# Altium integrated library TI Power Management Battery Management.IntLib: 949 symbols (part 29 of 62)
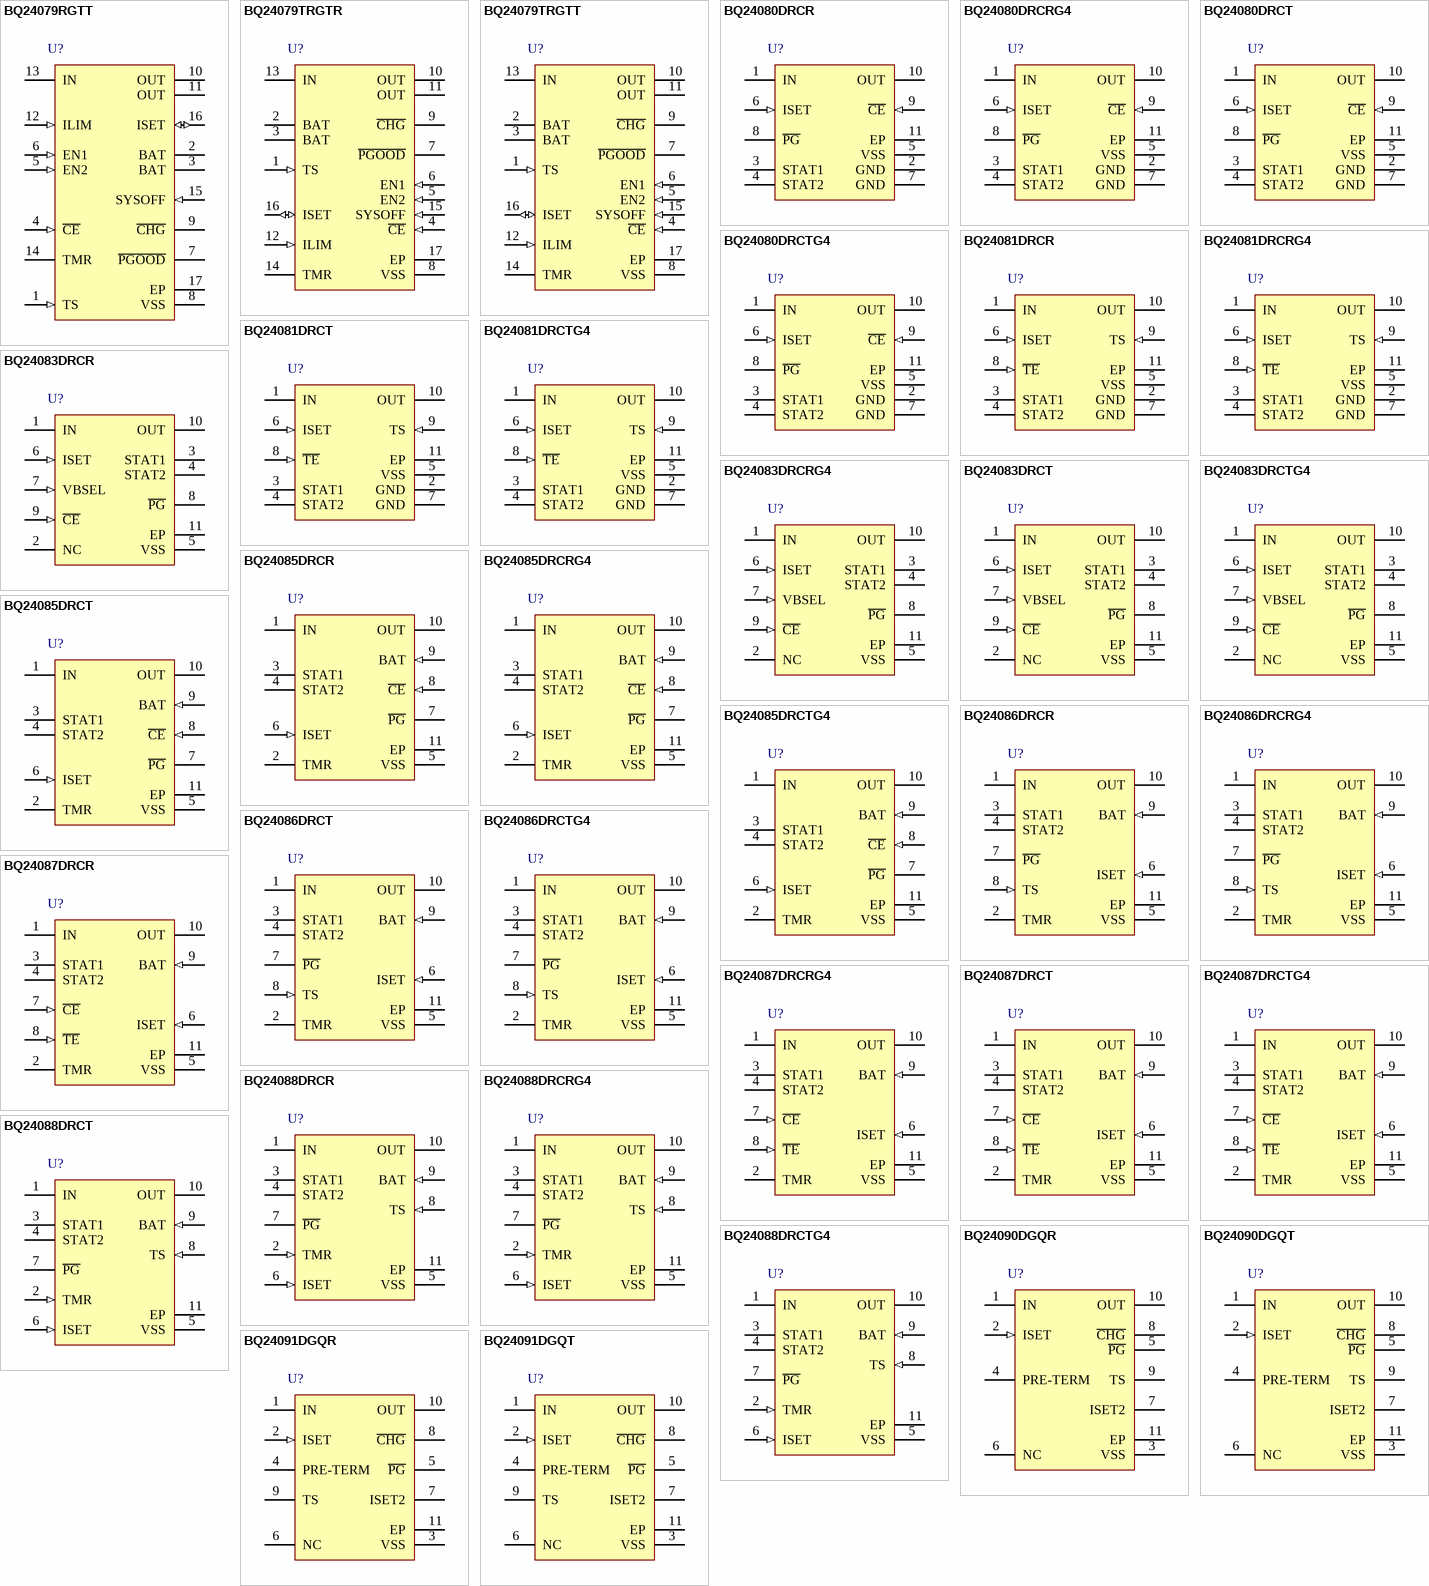
[diagram p62: symbols BQ24079RGTT to BQ24091DGQT]

## BQ24087DRCTG4
designator U?
750 mA Single-Chip Li-Ion / Li-Pol Charge Management IC with Thermal Regulation, 4.3 V, 0 to 125 degC, 10-pin SON (DRC), Green (RoHS & no Sb/Br); PartNumber: BQ24087DRCTG4; Manufacturer: Texas Instruments; Lead Acid: N; Li-Ion: Y; SubFamily: Battery Charge Management; Vin(Min)(V): 4.3; DatasheetVersion: SLUS784D; PackageVersion: revL, Sep-2011; PackageReference: DRC10-2400X1650TP; PackageDescription: 10-Pin Plastic Small Outline No-Lead, 3 x 3 x 1 mm Body, 0.5 mm Pitch, Exposed Pad; Supplier 1: Digi-Key; Supplier Part Number 1: BQ24087DRCTG4-ND; Supplier 2: Mouser; Supplier Part Number 2: 595-BQ24087DRCTG4; Eco-Plan: Green (RoHS & no Sb/Br); Li-Polymer: Y; NiCd: N; NiMH: N; Over Voltage Protection: N; Mounting Technology: Surface Mount; ComponentLink1Description: Datasheet; ComponentLink1URL: http://www.ti.com/general/docs/lit/getliterature.tsp?genericPartNumber=BQ24087&fileType=pdf
footprint DRC10-2400X1650TP (SON, 10-Leads, Body 3x3mm, Pitch 0.5mm, Thermal Pad 2.4x1.65mm, TI Recommended)
pins: 1 IN (power) "Charge Input Voltage and internal supply. Connect a 1- uF (minimum) capacitor from IN to VSS. CIN >= COUT", 2 TMR "Safety Timer Program Input, timer disabled if floating. Connect a resistor to VSS pin to program safety timer timeout value", 3 STAT1 (hiz) "Charge Status Output 1", 4 STAT2 (hiz) "Charge Status Output 2", 5 VSS (power) "Ground", 6 ISET (in) "Charge current set point, resistor connected from ISET to VSS sets charge current value. Connect a 0.1-uF capacitor from BAT to ISET for I(OUT) < 200 mA.", 7 ~{CE} (in) "Charge enable Input. C\E\ = LO enables charger. C\E\ = HI disables charger.", 8 ~{TE} (in) "Termination enable Input. T\E\ = LO enables termination detection and battery absent detection. T\E\ = HI disables termination detection and battery absent detection.", 9 BAT (in) "Battery Voltage Sense Input. Connect to the battery positive terminal. Connect a 390-ohm resistor from BAT to OUT for I(OUT) < 200 mA.", 10 OUT (power) "Charge current output. Connect to the battery positive terminal. Connect a 1- uF (minimum) capacitor from OUT to VSS.", 11 EP (power) "There is an internal electrical connection between the exposed thermal pad and Vss pin of the IC. The exposed thermal pad must be connected to the same potential as the VSS pin on the printed circuit board. Do not use the (See Datasheet)"

## BQ24088DRCR
designator U?
750 mA Single Chip Li-Ion / Li-Pol Charge Management IC with Thermal Regulation, 4.3 V, 0 to 125 degC, 10-pin SON (DRC), Green (RoHS & no Sb/Br); PartNumber: BQ24088DRCR; Manufacturer: Texas Instruments; Lead Acid: N; Li-Ion: Y; SubFamily: Battery Charge Management; Vin(Min)(V): 4.3; DatasheetVersion: SLUS784D; PackageVersion: revL, Sep-2011; PackageReference: DRC10-2400X1650TP; PackageDescription: 10-Pin Plastic Small Outline No-Lead, 3 x 3 x 1 mm Body, 0.5 mm Pitch, Exposed Pad; Supplier 1: Digi-Key; Supplier Part Number 1: 296-23443-2-ND; Supplier 2: Digi-Key; Supplier Part Number 2: 296-23443-1-ND; Supplier 3: Digi-Key; Supplier Part Number 3: 296-23443-6-ND; Supplier 4: Mouser; Supplier Part Number 4: 595-BQ24088DRCR; Eco-Plan: Green (RoHS & no Sb/Br); Li-Polymer: Y; NiCd: N; NiMH: N; Over Voltage Protection: N; Mounting Technology: Surface Mount; ComponentLink1Description: Datasheet; ComponentLink1URL: http://www.ti.com/general/docs/lit/getliterature.tsp?genericPartNumber=BQ24088&fileType=pdf
footprint DRC10-2400X1650TP (SON, 10-Leads, Body 3x3mm, Pitch 0.5mm, Thermal Pad 2.4x1.65mm, TI Recommended)
pins: 1 IN (power) "Charge Input Voltage and internal supply. Connect a 1- uF (minimum) capacitor from IN to VSS. CIN >= COUT", 2 TMR (in) "Safety Timer Program Input, timer disabled if floating. Connect a resistor to VSS pin to program safety timer timeout value", 3 STAT1 (hiz) "Charge Status Output 1 (open-collector, seeTable 3)", 4 STAT2 (hiz) "Charge Status Output 2 (open-collector, see Table 3)", 5 VSS (power) "Ground", 6 ISET (in) "Charge current set point, resistor connected from ISET to VSS sets charge  current value. Connect a 0.1-uF capacitor from BAT to ISET for I(OUT) < 200 mA.", 7 ~{PG} (hiz) "Power Good status output (open-collector), active low", 8 TS (in) "Temperature Sense Input, connect to battery pack thermistor. Connect an external resistive divider to program temperature thresholds.", 9 BAT (in) "Battery Voltage Sense Input. Connect to the battery positive terminal. Connect a 390-ohm resistor from BAT to OUT for I(OUT) < 200 mA..", 10 OUT (power) "Charge current output. Connect to the battery positive terminal. Connect a 1- uF (minimum) capacitor from OUT to VSS.", 11 EP (power) "There is an internal electrical connection between the exposed thermal pad and Vss pin of the IC. The exposed thermal pad must be connected to the same potential as the VSS pin on the printed circuit board. Do not use the (See Datasheet)"

## BQ24088DRCRG4
designator U?
750 mA Single Chip Li-Ion / Li-Pol Charge Management IC with Thermal Regulation, 4.3 V, 0 to 125 degC, 10-pin SON (DRC), Green (RoHS & no Sb/Br); PartNumber: BQ24088DRCRG4; Manufacturer: Texas Instruments; Lead Acid: N; Li-Ion: Y; SubFamily: Battery Charge Management; Vin(Min)(V): 4.3; DatasheetVersion: SLUS784D; PackageVersion: revL, Sep-2011; PackageReference: DRC10-2400X1650TP; PackageDescription: 10-Pin Plastic Small Outline No-Lead, 3 x 3 x 1 mm Body, 0.5 mm Pitch, Exposed Pad; Supplier 1: Digi-Key; Supplier Part Number 1: BQ24088DRCRG4-ND; Supplier 2: Mouser; Supplier Part Number 2: 595-BQ24088DRCRG4; Eco-Plan: Green (RoHS & no Sb/Br); Li-Polymer: Y; NiCd: N; NiMH: N; Over Voltage Protection: N; Mounting Technology: Surface Mount; ComponentLink1Description: Datasheet; ComponentLink1URL: http://www.ti.com/general/docs/lit/getliterature.tsp?genericPartNumber=BQ24088&fileType=pdf
footprint DRC10-2400X1650TP (SON, 10-Leads, Body 3x3mm, Pitch 0.5mm, Thermal Pad 2.4x1.65mm, TI Recommended)
pins: 1 IN (power) "Charge Input Voltage and internal supply. Connect a 1- uF (minimum) capacitor from IN to VSS. CIN >= COUT", 2 TMR (in) "Safety Timer Program Input, timer disabled if floating. Connect a resistor to VSS pin to program safety timer timeout value", 3 STAT1 (hiz) "Charge Status Output 1 (open-collector, seeTable 3)", 4 STAT2 (hiz) "Charge Status Output 2 (open-collector, see Table 3)", 5 VSS (power) "Ground", 6 ISET (in) "Charge current set point, resistor connected from ISET to VSS sets charge  current value. Connect a 0.1-uF capacitor from BAT to ISET for I(OUT) < 200 mA.", 7 ~{PG} (hiz) "Power Good status output (open-collector), active low", 8 TS (in) "Temperature Sense Input, connect to battery pack thermistor. Connect an external resistive divider to program temperature thresholds.", 9 BAT (in) "Battery Voltage Sense Input. Connect to the battery positive terminal. Connect a 390-ohm resistor from BAT to OUT for I(OUT) < 200 mA..", 10 OUT (power) "Charge current output. Connect to the battery positive terminal. Connect a 1- uF (minimum) capacitor from OUT to VSS.", 11 EP (power) "There is an internal electrical connection between the exposed thermal pad and Vss pin of the IC. The exposed thermal pad must be connected to the same potential as the VSS pin on the printed circuit board. Do not use the (See Datasheet)"

## BQ24088DRCT
designator U?
750 mA Single Chip Li-Ion / Li-Pol Charge Management IC with Thermal Regulation, 4.3 V, 0 to 125 degC, 10-pin SON (DRC), Green (RoHS & no Sb/Br); PartNumber: BQ24088DRCT; Manufacturer: Texas Instruments; Lead Acid: N; Li-Ion: Y; SubFamily: Battery Charge Management; Vin(Min)(V): 4.3; DatasheetVersion: SLUS784D; PackageVersion: revL, Sep-2011; PackageReference: DRC10-2400X1650TP; PackageDescription: 10-Pin Plastic Small Outline No-Lead, 3 x 3 x 1 mm Body, 0.5 mm Pitch, Exposed Pad; Supplier 1: Digi-Key; Supplier Part Number 1: BQ24088DRCT-ND; Supplier 2: Farnell; Supplier Part Number 2: 1647895RL; Supplier 3: Farnell; Supplier Part Number 3: 1647895; Supplier 4: Mouser; Supplier Part Number 4: 595-BQ24088DRCT; Eco-Plan: Green (RoHS & no Sb/Br); Li-Polymer: Y; NiCd: N; NiMH: N; Over Voltage Protection: N; Mounting Technology: Surface Mount; ComponentLink1Description: Datasheet; ComponentLink1URL: http://www.ti.com/general/docs/lit/getliterature.tsp?genericPartNumber=BQ24088&fileType=pdf
footprint DRC10-2400X1650TP (SON, 10-Leads, Body 3x3mm, Pitch 0.5mm, Thermal Pad 2.4x1.65mm, TI Recommended)
pins: 1 IN (power) "Charge Input Voltage and internal supply. Connect a 1- uF (minimum) capacitor from IN to VSS. CIN >= COUT", 2 TMR (in) "Safety Timer Program Input, timer disabled if floating. Connect a resistor to VSS pin to program safety timer timeout value", 3 STAT1 (hiz) "Charge Status Output 1 (open-collector, seeTable 3)", 4 STAT2 (hiz) "Charge Status Output 2 (open-collector, see Table 3)", 5 VSS (power) "Ground", 6 ISET (in) "Charge current set point, resistor connected from ISET to VSS sets charge  current value. Connect a 0.1-uF capacitor from BAT to ISET for I(OUT) < 200 mA.", 7 ~{PG} (hiz) "Power Good status output (open-collector), active low", 8 TS (in) "Temperature Sense Input, connect to battery pack thermistor. Connect an external resistive divider to program temperature thresholds.", 9 BAT (in) "Battery Voltage Sense Input. Connect to the battery positive terminal. Connect a 390-ohm resistor from BAT to OUT for I(OUT) < 200 mA..", 10 OUT (power) "Charge current output. Connect to the battery positive terminal. Connect a 1- uF (minimum) capacitor from OUT to VSS.", 11 EP (power) "There is an internal electrical connection between the exposed thermal pad and Vss pin of the IC. The exposed thermal pad must be connected to the same potential as the VSS pin on the printed circuit board. Do not use the (See Datasheet)"

## BQ24088DRCTG4
designator U?
750 mA Single Chip Li-Ion / Li-Pol Charge Management IC with Thermal Regulation, 4.3 V, 0 to 125 degC, 10-pin SON (DRC), Green (RoHS & no Sb/Br); PartNumber: BQ24088DRCTG4; Manufacturer: Texas Instruments; Lead Acid: N; Li-Ion: Y; SubFamily: Battery Charge Management; Vin(Min)(V): 4.3; DatasheetVersion: SLUS784D; PackageVersion: revL, Sep-2011; PackageReference: DRC10-2400X1650TP; PackageDescription: 10-Pin Plastic Small Outline No-Lead, 3 x 3 x 1 mm Body, 0.5 mm Pitch, Exposed Pad; Supplier 1: Digi-Key; Supplier Part Number 1: BQ24088DRCTG4-ND; Supplier 2: Mouser; Supplier Part Number 2: 595-BQ24088DRCTG4; Eco-Plan: Green (RoHS & no Sb/Br); Li-Polymer: Y; NiCd: N; NiMH: N; Over Voltage Protection: N; Mounting Technology: Surface Mount; ComponentLink1Description: Datasheet; ComponentLink1URL: http://www.ti.com/general/docs/lit/getliterature.tsp?genericPartNumber=BQ24088&fileType=pdf
footprint DRC10-2400X1650TP (SON, 10-Leads, Body 3x3mm, Pitch 0.5mm, Thermal Pad 2.4x1.65mm, TI Recommended)
pins: 1 IN (power) "Charge Input Voltage and internal supply. Connect a 1- uF (minimum) capacitor from IN to VSS. CIN >= COUT", 2 TMR (in) "Safety Timer Program Input, timer disabled if floating. Connect a resistor to VSS pin to program safety timer timeout value", 3 STAT1 (hiz) "Charge Status Output 1 (open-collector, seeTable 3)", 4 STAT2 (hiz) "Charge Status Output 2 (open-collector, see Table 3)", 5 VSS (power) "Ground", 6 ISET (in) "Charge current set point, resistor connected from ISET to VSS sets charge  current value. Connect a 0.1-uF capacitor from BAT to ISET for I(OUT) < 200 mA.", 7 ~{PG} (hiz) "Power Good status output (open-collector), active low", 8 TS (in) "Temperature Sense Input, connect to battery pack thermistor. Connect an external resistive divider to program temperature thresholds.", 9 BAT (in) "Battery Voltage Sense Input. Connect to the battery positive terminal. Connect a 390-ohm resistor from BAT to OUT for I(OUT) < 200 mA..", 10 OUT (power) "Charge current output. Connect to the battery positive terminal. Connect a 1- uF (minimum) capacitor from OUT to VSS.", 11 EP (power) "There is an internal electrical connection between the exposed thermal pad and Vss pin of the IC. The exposed thermal pad must be connected to the same potential as the VSS pin on the printed circuit board. Do not use the (See Datasheet)"

## BQ24090DGQR
designator U?
1 A, Single Input, Single Cell Li-Ion Battery Charger with 10 K ohm NTC, 4.5 V, -40 to 150 degC, 10-pin MSOP-PowerPAD (DGQ), Green (RoHS & no Sb/Br); PartNumber: BQ24090DGQR; Manufacturer: Texas Instruments; Lead Acid: N; SubFamily: Battery Charge Management; Vin(Min)(V): 4.5; DatasheetVersion: SLUS968C; PackageVersion: revF, Nov-2011; PackageReference: DGQ10-1675X1445TP; PackageDescription: 10-Pin PowerPAD Plastic Small Outline 0.5 mm Pitch, Exposed Pad; Supplier 1: Digi-Key; Supplier Part Number 1: BQ24090DGQR-ND; Supplier 2: Newark; Supplier Part Number 2: 68R5440; Supplier 3: Mouser; Supplier Part Number 3: 595-BQ24090DGQR; Eco-Plan: Green (RoHS & no Sb/Br); Li-Ion: N; Li-Polymer: N; NiCd: N; NiMH: N; Over Voltage Protection: N; Mounting Technology: Surface Mount; Code_JEDEC: MO-187-BA-T; ComponentLink1Description: Datasheet; ComponentLink1URL: http://www.ti.com/general/docs/lit/getliterature.tsp?genericPartNumber=BQ24090&fileType=pdf
footprint DGQ10-1675X1445TP_N (TSSOP, 10-Leads, Body 3x3mm, Pitch 0.5mm, Thermal Pad 1.88x1.57mm, IPC Medium Density)
footprint DGQ10-1675X1445TP_L (TSSOP, 10-Leads, Body 3x3mm, Pitch 0.5mm, Thermal Pad 1.88x1.57mm, IPC High Density)
footprint DGQ10-1675X1445TP_M (TSSOP, 10-Leads, Body 3x3mm, Pitch 0.5mm, Thermal Pad 1.88x1.57mm, IPC Low Density)
pins: 1 IN (power) "Input power, connected to external DC supply (AC adapter or USB port). Expected range of bypass capacitors 1uF to 10uF, connect from IN to VSS.", 2 ISET (in) "Programs the Fast-charge current setting. External resistor from ISET to VSS defines fast charge current value. Range is 10.8k (50mA) to 675 ohm (800mA).", 3 VSS (power) "Ground terminal", 4 PRE-TERM "Programs the Current Termination Threshold (5 to 50% of Iout which is set by ISET) and Sets the Pre- Charge Current to twice the Termination Current Level. Expected range of programming resistor is 1k to 10kohm (2k: Ipgm/10 (See Datasheet)", 5 ~{PG} (hiz) "Low (FET on) indicates the input voltage is above UVLO and the OUT (battery) voltage.", 6 NC "Do not make a connection to this pin (for internal use) - Do not route through this pin", 7 ISET2 "Programming the Input/Output Current Limit for the USB or Adaptor source: High = 500mAmax, Low = ISET, FLOAT = 100mA max.", 8 ~{CHG} (hiz) "Low (FET on) indicates charging and Open Drain (FET off) indicates no Charging or Charge complete.", 9 TS "Temperature sense pin connected to bq24090/2 -10k at 25degreesC NTC thermistor & bq24091/3 -100k at 25degreesC NTC thermistor, in the battery pack. Floating TS Pin or pulling High puts part in TTDM “Charger?Mode and disable (See Datasheet)", 10 OUT (power) "Battery Connection. System Load may be connected. Average load should not be excessive, allowing battery to charge within the 10 hour safety timer window. Expected range of bypass capacitors 1uF to 10uF.", 11 EP (power) "There is an internal electrical connection between the exposed thermal pad and the VSS pin of the device. The thermal pad must be connected to the same potential as the VSS pin on the printed circuit board. Do not use the (See Datasheet)"

## BQ24090DGQT
designator U?
1 A, Single Input, Single Cell Li-Ion Battery Charger with 10 K ohm NTC, 4.5 V, -40 to 150 degC, 10-pin MSOP-PowerPAD (DGQ), Green (RoHS & no Sb/Br); PartNumber: BQ24090DGQT; Manufacturer: Texas Instruments; Lead Acid: N; SubFamily: Battery Charge Management; Vin(Min)(V): 4.5; DatasheetVersion: SLUS968C; PackageVersion: revF, Nov-2011; PackageReference: DGQ10-1675X1445TP; PackageDescription: 10-Pin PowerPAD Plastic Small Outline 0.5 mm Pitch, Exposed Pad; Supplier 1: Digi-Key; Supplier Part Number 1: 296-25863-2-ND; Supplier 2: Digi-Key; Supplier Part Number 2: 296-25863-1-ND; Supplier 3: Digi-Key; Supplier Part Number 3: 296-25863-6-ND; Supplier 4: Farnell; Supplier Part Number 4: 1815715RL; Supplier 5: Farnell; Supplier Part Number 5: 1815715; Supplier 6: Newark; Supplier Part Number 6: 67R4097; Supplier 7: Mouser; Supplier Part Number 7: 595-BQ24090DGQT; Eco-Plan: Green (RoHS & no Sb/Br); Li-Ion: N; Li-Polymer: N; NiCd: N; NiMH: N; Over Voltage Protection: N; Mounting Technology: Surface Mount; Code_JEDEC: MO-187-BA-T; ComponentLink1Description: Datasheet; ComponentLink1URL: http://www.ti.com/general/docs/lit/getliterature.tsp?genericPartNumber=BQ24090&fileType=pdf
footprint DGQ10-1675X1445TP_N (TSSOP, 10-Leads, Body 3x3mm, Pitch 0.5mm, Thermal Pad 1.88x1.57mm, IPC Medium Density)
footprint DGQ10-1675X1445TP_L (TSSOP, 10-Leads, Body 3x3mm, Pitch 0.5mm, Thermal Pad 1.88x1.57mm, IPC High Density)
footprint DGQ10-1675X1445TP_M (TSSOP, 10-Leads, Body 3x3mm, Pitch 0.5mm, Thermal Pad 1.88x1.57mm, IPC Low Density)
pins: 1 IN (power) "Input power, connected to external DC supply (AC adapter or USB port). Expected range of bypass capacitors 1uF to 10uF, connect from IN to VSS.", 2 ISET (in) "Programs the Fast-charge current setting. External resistor from ISET to VSS defines fast charge current value. Range is 10.8k (50mA) to 675 ohm (800mA).", 3 VSS (power) "Ground terminal", 4 PRE-TERM "Programs the Current Termination Threshold (5 to 50% of Iout which is set by ISET) and Sets the Pre- Charge Current to twice the Termination Current Level. Expected range of programming resistor is 1k to 10kohm (2k: Ipgm/10 (See Datasheet)", 5 ~{PG} (hiz) "Low (FET on) indicates the input voltage is above UVLO and the OUT (battery) voltage.", 6 NC "Do not make a connection to this pin (for internal use) - Do not route through this pin", 7 ISET2 "Programming the Input/Output Current Limit for the USB or Adaptor source: High = 500mAmax, Low = ISET, FLOAT = 100mA max.", 8 ~{CHG} (hiz) "Low (FET on) indicates charging and Open Drain (FET off) indicates no Charging or Charge complete.", 9 TS "Temperature sense pin connected to bq24090/2 -10k at 25degreesC NTC thermistor & bq24091/3 -100k at 25degreesC NTC thermistor, in the battery pack. Floating TS Pin or pulling High puts part in TTDM “Charger?Mode and disable (See Datasheet)", 10 OUT (power) "Battery Connection. System Load may be connected. Average load should not be excessive, allowing battery to charge within the 10 hour safety timer window. Expected range of bypass capacitors 1uF to 10uF.", 11 EP (power) "There is an internal electrical connection between the exposed thermal pad and the VSS pin of the device. The thermal pad must be connected to the same potential as the VSS pin on the printed circuit board. Do not use the (See Datasheet)"

## BQ24091DGQR
designator U?
1 A, Single-Input, Single-Cell Li-Ion Battery Charger with 100 k ohm NTC, 4.5 V, -40 to 150 degC, 10-pin MSOP-PowerPAD (DGQ), Green (RoHS & no Sb/Br); PartNumber: BQ24091DGQR; Manufacturer: Texas Instruments; Lead Acid: N; SubFamily: Battery Charge Management; Vin(Min)(V): 4.5; DatasheetVersion: SLUS968C; PackageVersion: revF, Nov-2011; PackageReference: DGQ10-1675X1445TP; PackageDescription: 10-Pin PowerPAD Plastic Small Outline 0.5 mm Pitch, Exposed Pad; Supplier 1: Digi-Key; Supplier Part Number 1: BQ24091DGQR-ND; Supplier 2: Mouser; Supplier Part Number 2: 595-BQ24091DGQR; Eco-Plan: Green (RoHS & no Sb/Br); Li-Ion: N; Li-Polymer: N; NiCd: N; NiMH: N; Over Voltage Protection: N; Mounting Technology: Surface Mount; Code_JEDEC: MO-187-BA-T; ComponentLink1Description: Datasheet; ComponentLink1URL: http://www.ti.com/general/docs/lit/getliterature.tsp?genericPartNumber=BQ24091&fileType=pdf
footprint DGQ10-1675X1445TP_N (TSSOP, 10-Leads, Body 3x3mm, Pitch 0.5mm, Thermal Pad 1.88x1.57mm, IPC Medium Density)
footprint DGQ10-1675X1445TP_L (TSSOP, 10-Leads, Body 3x3mm, Pitch 0.5mm, Thermal Pad 1.88x1.57mm, IPC High Density)
footprint DGQ10-1675X1445TP_M (TSSOP, 10-Leads, Body 3x3mm, Pitch 0.5mm, Thermal Pad 1.88x1.57mm, IPC Low Density)
pins: 1 IN (power) "Input power, connected to external DC supply (AC adapter or USB port). Expected range of bypass capacitors 1uF to 10uF, connect from IN to VSS.", 2 ISET (in) "Programs the Fast-charge current setting. External resistor from ISET to VSS defines fast charge current value. Range is 10.8k (50mA) to 675 ohm (800mA).", 3 VSS (power) "Ground terminal", 4 PRE-TERM "Programs the Current Termination Threshold (5 to 50% of Iout which is set by ISET) and Sets the Pre- Charge Current to twice the Termination Current Level. Expected range of programming resistor is 1k to 10kohm (2k: Ipgm/10 (See Datasheet)", 5 ~{PG} (hiz) "Low (FET on) indicates the input voltage is above UVLO and the OUT (battery) voltage.", 6 NC "Do not make a connection to this pin (for internal use) - Do not route through this pin", 7 ISET2 "Programming the Input/Output Current Limit for the USB or Adaptor source: High = 500mAmax, Low = ISET, FLOAT = 100mA max.", 8 ~{CHG} (hiz) "Low (FET on) indicates charging and Open Drain (FET off) indicates no Charging or Charge complete.", 9 TS "Temperature sense pin connected to bq24090/2 -10k at 25degC NTC thermistor & bq24091/3 -100k at 25degC NTC thermistor, in the battery pack. Floating TS Pin or pulling High puts part in TTDM "Charger" Mode and disable TS (See Datasheet)", 10 OUT (power) "Battery Connection. System Load may be connected. Average load should not be excessive, allowing battery to charge within the 10 hour safety timer window. Expected range of bypass capacitors 1uF to 10uF.", 11 EP (power) "There is an internal electrical connection between the exposed thermal pad and the VSS pin of the device. The thermal pad must be connected to the same potential as the VSS pin on the printed circuit board. Do not use the (See Datasheet)"

## BQ24091DGQT
designator U?
1 A, Single-Input, Single-Cell Li-Ion Battery Charger with 100 k ohm NTC, 4.5 V, -40 to 150 degC, 10-pin MSOP-PowerPAD (DGQ), Green (RoHS & no Sb/Br); PartNumber: BQ24091DGQT; Manufacturer: Texas Instruments; Lead Acid: N; SubFamily: Battery Charge Management; Vin(Min)(V): 4.5; DatasheetVersion: SLUS968C; PackageVersion: revF, Nov-2011; PackageReference: DGQ10-1675X1445TP; PackageDescription: 10-Pin PowerPAD Plastic Small Outline 0.5 mm Pitch, Exposed Pad; Supplier 1: Digi-Key; Supplier Part Number 1: 296-25864-2-ND; Supplier 2: Digi-Key; Supplier Part Number 2: 296-25864-1-ND; Supplier 3: Digi-Key; Supplier Part Number 3: 296-25864-6-ND; Supplier 4: Farnell; Supplier Part Number 4: 1864811; Supplier 5: Farnell; Supplier Part Number 5: 1864811RL; Supplier 6: Newark; Supplier Part Number 6: 67R4098; Supplier 7: Mouser; Supplier Part Number 7: 595-BQ24091DGQT; Eco-Plan: Green (RoHS & no Sb/Br); Li-Ion: N; Li-Polymer: N; NiCd: N; NiMH: N; Over Voltage Protection: N; Mounting Technology: Surface Mount; Code_JEDEC: MO-187-BA-T; ComponentLink1Description: Datasheet; ComponentLink1URL: http://www.ti.com/general/docs/lit/getliterature.tsp?genericPartNumber=BQ24091&fileType=pdf
footprint DGQ10-1675X1445TP_N (TSSOP, 10-Leads, Body 3x3mm, Pitch 0.5mm, Thermal Pad 1.88x1.57mm, IPC Medium Density)
footprint DGQ10-1675X1445TP_L (TSSOP, 10-Leads, Body 3x3mm, Pitch 0.5mm, Thermal Pad 1.88x1.57mm, IPC High Density)
footprint DGQ10-1675X1445TP_M (TSSOP, 10-Leads, Body 3x3mm, Pitch 0.5mm, Thermal Pad 1.88x1.57mm, IPC Low Density)
pins: 1 IN (power) "Input power, connected to external DC supply (AC adapter or USB port). Expected range of bypass capacitors 1uF to 10uF, connect from IN to VSS.", 2 ISET (in) "Programs the Fast-charge current setting. External resistor from ISET to VSS defines fast charge current value. Range is 10.8k (50mA) to 675 ohm (800mA).", 3 VSS (power) "Ground terminal", 4 PRE-TERM "Programs the Current Termination Threshold (5 to 50% of Iout which is set by ISET) and Sets the Pre- Charge Current to twice the Termination Current Level. Expected range of programming resistor is 1k to 10kohm (2k: Ipgm/10 (See Datasheet)", 5 ~{PG} (hiz) "Low (FET on) indicates the input voltage is above UVLO and the OUT (battery) voltage.", 6 NC "Do not make a connection to this pin (for internal use) - Do not route through this pin", 7 ISET2 "Programming the Input/Output Current Limit for the USB or Adaptor source: High = 500mAmax, Low = ISET, FLOAT = 100mA max.", 8 ~{CHG} (hiz) "Low (FET on) indicates charging and Open Drain (FET off) indicates no Charging or Charge complete.", 9 TS "Temperature sense pin connected to bq24090/2 -10k at 25degC NTC thermistor & bq24091/3 -100k at 25degC NTC thermistor, in the battery pack. Floating TS Pin or pulling High puts part in TTDM "Charger" Mode and disable TS (See Datasheet)", 10 OUT (power) "Battery Connection. System Load may be connected. Average load should not be excessive, allowing battery to charge within the 10 hour safety timer window. Expected range of bypass capacitors 1uF to 10uF.", 11 EP (power) "There is an internal electrical connection between the exposed thermal pad and the VSS pin of the device. The thermal pad must be connected to the same potential as the VSS pin on the printed circuit board. Do not use the (See Datasheet)"

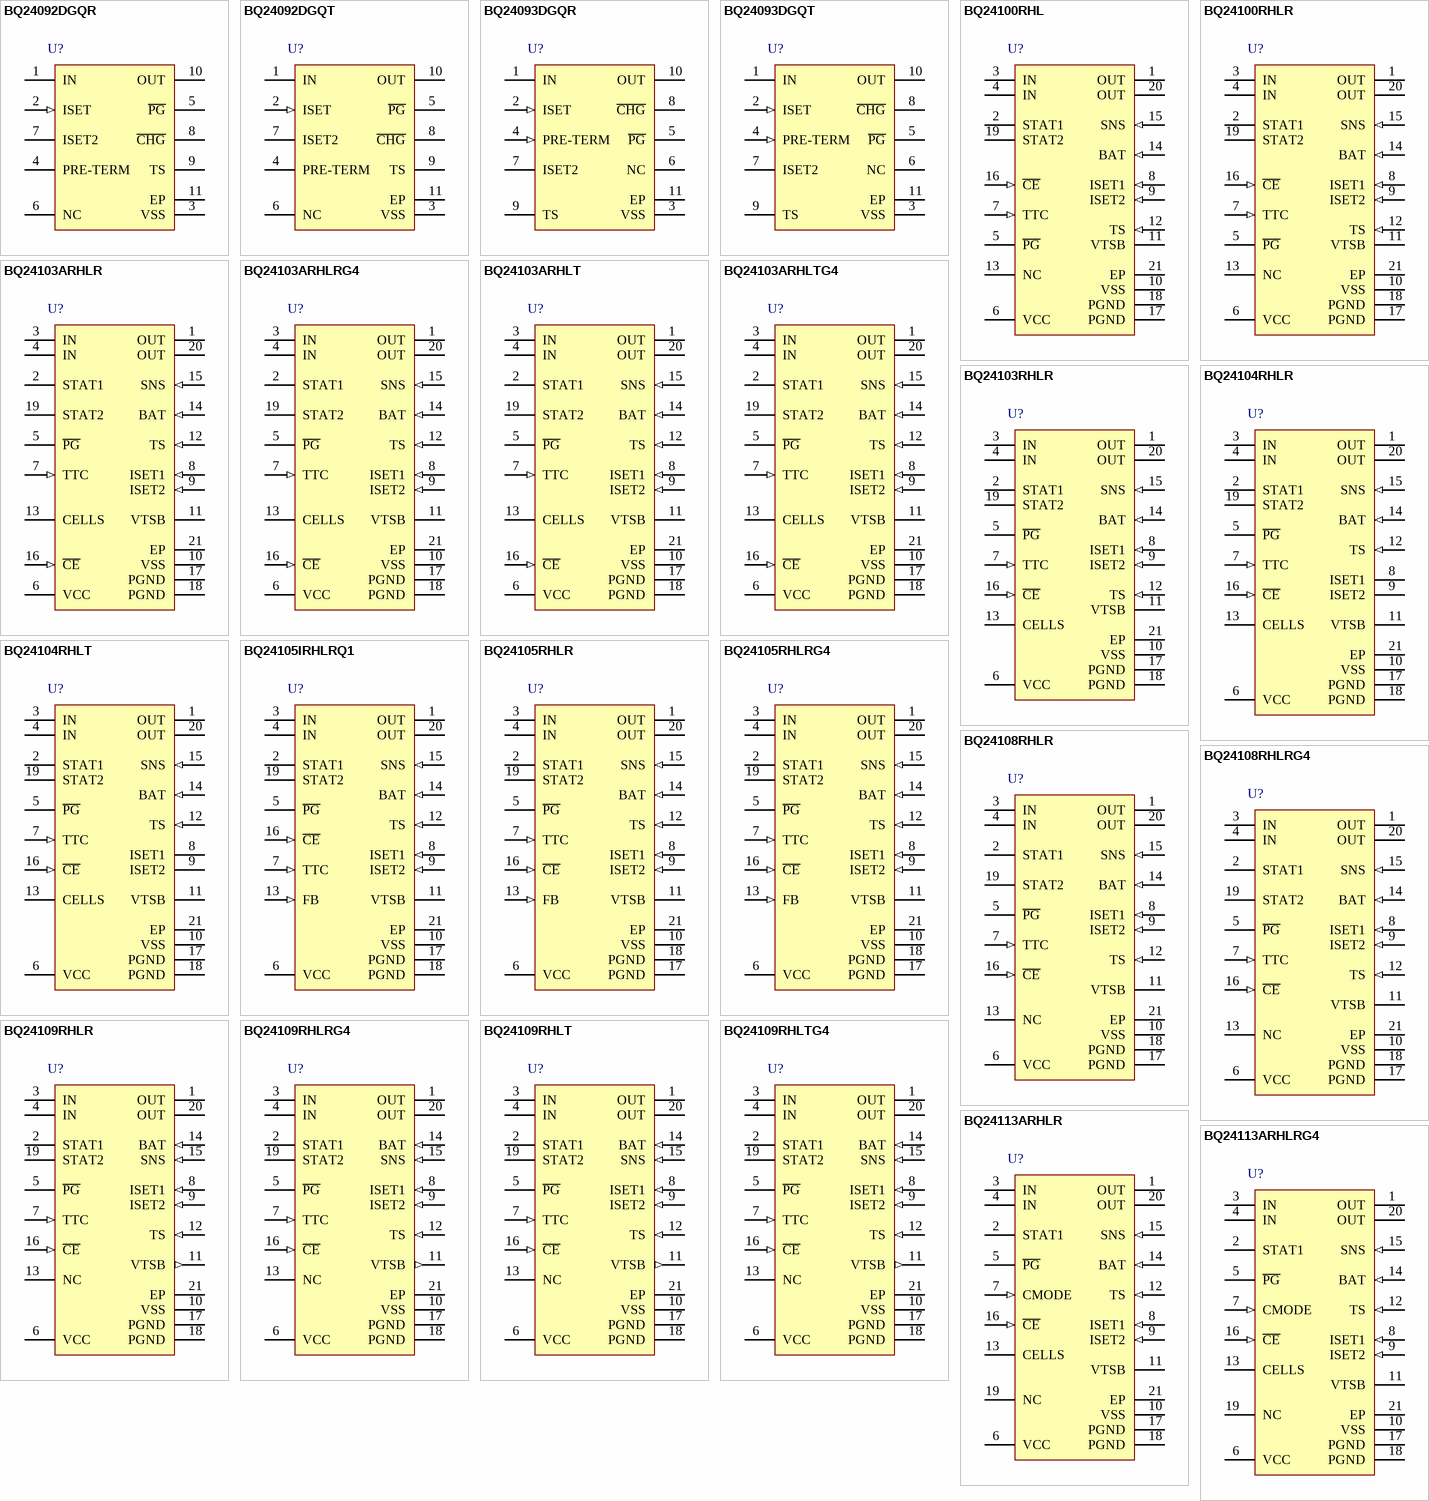
[diagram p17: symbols BQ24092DGQR to BQ24113ARHLRG4]

## BQ24092DGQR
designator U?
1 A, Single-Input, Single-Cell Li-Ion Battery Charger with Operation Over JEITA and 10 k ohm NTC, 4.5 V, -40 to 150 degC, 10-pin MSOP-PowerPAD (DGQ), Green (RoHS & no Sb/Br); PartNumber: BQ24092DGQR; Manufacturer: Texas Instruments; Lead Acid: N; SubFamily: Battery Charge Management; Vin(Min)(V): 4.5; DatasheetVersion: SLUS968C; PackageVersion: revF, Nov-2011; PackageReference: DGQ10-1675X1445TP; PackageDescription: 10-Pin PowerPAD Plastic Small Outline 0.5 mm Pitch, Exposed Pad; Supplier 1: Digi-Key; Supplier Part Number 1: BQ24092DGQR-ND; Supplier 2: Newark; Supplier Part Number 2: 79R7874; Supplier 3: Mouser; Supplier Part Number 3: 595-BQ24092DGQR; Eco-Plan: Green (RoHS & no Sb/Br); Li-Ion: N; Li-Polymer: N; NiCd: N; NiMH: N; Over Voltage Protection: N; Mounting Technology: Surface Mount; Code_JEDEC: MO-187-BA-T; ComponentLink1Description: Datasheet; ComponentLink1URL: http://www.ti.com/general/docs/lit/getliterature.tsp?genericPartNumber=BQ24092&fileType=pdf
footprint DGQ10-1675X1445TP_N (TSSOP, 10-Leads, Body 3x3mm, Pitch 0.5mm, Thermal Pad 1.88x1.57mm, IPC Medium Density)
footprint DGQ10-1675X1445TP_L (TSSOP, 10-Leads, Body 3x3mm, Pitch 0.5mm, Thermal Pad 1.88x1.57mm, IPC High Density)
footprint DGQ10-1675X1445TP_M (TSSOP, 10-Leads, Body 3x3mm, Pitch 0.5mm, Thermal Pad 1.88x1.57mm, IPC Low Density)
pins: 1 IN (power) "Input power, connected to external DC supply (AC adapter or USB port). Expected range of bypass capacitors 1uF to 10uF, connect from IN to VSS.", 2 ISET (in) "Programs the Fast-charge current setting. External resistor from ISET to VSS defines fast charge current value. Range is 10.8k (50mA) to 675 ohm (800mA).", 3 VSS (power) "Ground terminal", 4 PRE-TERM "Programs the Current Termination Threshold (5 to 50% of Iout which is set by ISET) and Sets the Pre- Charge Current to twice the Termination Current Level. Expected range of programming resistor is 1k to 10kohm (2k: Ipgm/10 (See Datasheet)", 5 ~{PG} (hiz) "Low (FET on) indicates the input voltage is above UVLO and the OUT (battery) voltage.", 6 NC "Do not make a connection to this pin (for internal use) - Do not route through this pin", 7 ISET2 "Programming the Input/Output Current Limit for the USB or Adaptor source: High = 500mAmax, Low = ISET, FLOAT = 100mA max.", 8 ~{CHG} (hiz) "Low (FET on) indicates charging and Open Drain (FET off) indicates no Charging or Charge complete.", 9 TS "Temperature sense pin connected to bq24090/2 -10k at 25degC NTC thermistor & bq24091/3 -100k at 25degC NTC thermistor, in the battery pack. Floating TS Pin or pulling High puts part in TTDM "Charger" Mode and disable TS (See Datasheet)", 10 OUT (power) "Battery Connection. System Load may be connected. Average load should not be excessive, allowing battery to charge within the 10 hour safety timer window. Expected range of bypass capacitors 1uF to 10uF.", 11 EP (power) "There is an internal electrical connection between the exposed thermal pad and the VSS pin of the device. The thermal pad must be connected to the same potential as the VSS pin on the printed circuit board. Do not use the (See Datasheet)"

## BQ24092DGQT
designator U?
1 A, Single-Input, Single-Cell Li-Ion Battery Charger with Operation Over JEITA and 10 k ohm NTC, 4.5 V, -40 to 150 degC, 10-pin MSOP-PowerPAD (DGQ), Green (RoHS & no Sb/Br); PartNumber: BQ24092DGQT; Manufacturer: Texas Instruments; Lead Acid: N; SubFamily: Battery Charge Management; Vin(Min)(V): 4.5; DatasheetVersion: SLUS968C; PackageVersion: revF, Nov-2011; PackageReference: DGQ10-1675X1445TP; PackageDescription: 10-Pin PowerPAD Plastic Small Outline 0.5 mm Pitch, Exposed Pad; Supplier 1: Digi-Key; Supplier Part Number 1: 296-27510-2-ND; Supplier 2: Digi-Key; Supplier Part Number 2: 296-27510-1-ND; Supplier 3: Digi-Key; Supplier Part Number 3: 296-27510-6-ND; Supplier 4: Newark; Supplier Part Number 4: 79R7875; Supplier 5: Mouser; Supplier Part Number 5: 595-BQ24092DGQT; Eco-Plan: Green (RoHS & no Sb/Br); Li-Ion: N; Li-Polymer: N; NiCd: N; NiMH: N; Over Voltage Protection: N; Mounting Technology: Surface Mount; Code_JEDEC: MO-187-BA-T; ComponentLink1Description: Datasheet; ComponentLink1URL: http://www.ti.com/general/docs/lit/getliterature.tsp?genericPartNumber=BQ24092&fileType=pdf
footprint DGQ10-1675X1445TP_N (TSSOP, 10-Leads, Body 3x3mm, Pitch 0.5mm, Thermal Pad 1.88x1.57mm, IPC Medium Density)
footprint DGQ10-1675X1445TP_L (TSSOP, 10-Leads, Body 3x3mm, Pitch 0.5mm, Thermal Pad 1.88x1.57mm, IPC High Density)
footprint DGQ10-1675X1445TP_M (TSSOP, 10-Leads, Body 3x3mm, Pitch 0.5mm, Thermal Pad 1.88x1.57mm, IPC Low Density)
pins: 1 IN (power) "Input power, connected to external DC supply (AC adapter or USB port). Expected range of bypass capacitors 1uF to 10uF, connect from IN to VSS.", 2 ISET (in) "Programs the Fast-charge current setting. External resistor from ISET to VSS defines fast charge current value. Range is 10.8k (50mA) to 675 ohm (800mA).", 3 VSS (power) "Ground terminal", 4 PRE-TERM "Programs the Current Termination Threshold (5 to 50% of Iout which is set by ISET) and Sets the Pre- Charge Current to twice the Termination Current Level. Expected range of programming resistor is 1k to 10kohm (2k: Ipgm/10 (See Datasheet)", 5 ~{PG} (hiz) "Low (FET on) indicates the input voltage is above UVLO and the OUT (battery) voltage.", 6 NC "Do not make a connection to this pin (for internal use) - Do not route through this pin", 7 ISET2 "Programming the Input/Output Current Limit for the USB or Adaptor source: High = 500mAmax, Low = ISET, FLOAT = 100mA max.", 8 ~{CHG} (hiz) "Low (FET on) indicates charging and Open Drain (FET off) indicates no Charging or Charge complete.", 9 TS "Temperature sense pin connected to bq24090/2 -10k at 25degC NTC thermistor & bq24091/3 -100k at 25degC NTC thermistor, in the battery pack. Floating TS Pin or pulling High puts part in TTDM "Charger" Mode and disable TS (See Datasheet)", 10 OUT (power) "Battery Connection. System Load may be connected. Average load should not be excessive, allowing battery to charge within the 10 hour safety timer window. Expected range of bypass capacitors 1uF to 10uF.", 11 EP (power) "There is an internal electrical connection between the exposed thermal pad and the VSS pin of the device. The thermal pad must be connected to the same potential as the VSS pin on the printed circuit board. Do not use the (See Datasheet)"

## BQ24093DGQR
designator U?
1 A, Single-Input, Single-Cell Li-Ion Battery Charger with Operation Over JEITA and 100 k ohm NTC, 4.5 V, -40 to 150 degC, 10-pin MSOP-PowerPAD (DGQ), Green (RoHS & no Sb/Br); PartNumber: BQ24093DGQR; Manufacturer: Texas Instruments; Lead Acid: N; SubFamily: Battery Charge Management; Vin(Min)(V): 4.5; DatasheetVersion: SLUS968C; PackageVersion: revF, Nov-2011; PackageReference: DGQ10-1675X1445TP; PackageDescription: 10-Pin PowerPAD Plastic Small Outline 0.5 mm Pitch, Exposed Pad; Supplier 1: Digi-Key; Supplier Part Number 1: BQ24093DGQR-ND; Supplier 2: Mouser; Supplier Part Number 2: 595-BQ24093DGQR; Eco-Plan: Green (RoHS & no Sb/Br); Li-Ion: N; Li-Polymer: N; NiCd: N; NiMH: N; Over Voltage Protection: N; Mounting Technology: Surface Mount; Code_JEDEC: MO-187-BA-T; ComponentLink1Description: Datasheet; ComponentLink1URL: http://www.ti.com/general/docs/lit/getliterature.tsp?genericPartNumber=BQ24093&fileType=pdf
footprint DGQ10-1675X1445TP_N (TSSOP, 10-Leads, Body 3x3mm, Pitch 0.5mm, Thermal Pad 1.88x1.57mm, IPC Medium Density)
footprint DGQ10-1675X1445TP_L (TSSOP, 10-Leads, Body 3x3mm, Pitch 0.5mm, Thermal Pad 1.88x1.57mm, IPC High Density)
footprint DGQ10-1675X1445TP_M (TSSOP, 10-Leads, Body 3x3mm, Pitch 0.5mm, Thermal Pad 1.88x1.57mm, IPC Low Density)
pins: 1 IN (power) "Input power, connected to external DC supply (AC adapter or USB port). Expected range of bypass capacitors 1uF to 10uF, connect from IN to VSS.", 2 ISET (in) "Programs the Fast-charge current setting. External resistor from ISET to VSS defines fast charge current value. Range is 10.8k (50mA) to 675 ohm (800mA).", 3 VSS (power) "Ground terminal", 4 PRE-TERM (in) "Programs the Current Termination Threshold (5 to 50% of Iout which is set by ISET) and Sets the Pre- Charge Current to twice the Termination Current Level. Expected range of programming resistor is 1k to 10kohm (2k: Ipgm/10 (See Datasheet)", 5 ~{PG} (hiz) "Low (FET on) indicates the input voltage is above UVLO and the OUT (battery) voltage.", 6 NC "Do not make a connection to this pin (for internal use) - Do not route through this pin", 7 ISET2 "Programming the Input/Output Current Limit for the USB or Adaptor source: High = 500mAmax, Low = ISET, FLOAT = 100mA max.", 8 ~{CHG} (hiz) "Low (FET on) indicates charging and Open Drain (FET off) indicates no Charging or Charge complete.", 9 TS "Temperature sense pin connected to bq24090/2 -10k at 25degreesC NTC thermistor & bq24091/3 -100k at 25degreesC NTC thermistor, in the battery pack. Floating TS Pin or pulling High puts part in TTDM “Charger” Mode and disable (See Datasheet)", 10 OUT (power) "Battery Connection. System Load may be connected. Average load should not be excessive, allowing battery to charge within the 10 hour safety timer window. Expected range of bypass capacitors 1uF to 10uF.", 11 EP (power) "There is an internal electrical connection between the exposed thermal pad and the VSS pin of the device. The thermal pad must be connected to the same potential as the VSS pin on the printed circuit board. Do not use the (See Datasheet)"

## BQ24093DGQT
designator U?
1 A, Single-Input, Single-Cell Li-Ion Battery Charger with Operation Over JEITA and 100 k ohm NTC, 4.5 V, -40 to 150 degC, 10-pin MSOP-PowerPAD (DGQ), Green (RoHS & no Sb/Br); PartNumber: BQ24093DGQT; Manufacturer: Texas Instruments; Lead Acid: N; SubFamily: Battery Charge Management; Vin(Min)(V): 4.5; DatasheetVersion: SLUS968C; PackageVersion: revF, Nov-2011; PackageReference: DGQ10-1675X1445TP; PackageDescription: 10-Pin PowerPAD Plastic Small Outline 0.5 mm Pitch, Exposed Pad; Supplier 1: Digi-Key; Supplier Part Number 1: 296-27511-2-ND; Supplier 2: Digi-Key; Supplier Part Number 2: 296-27511-1-ND; Supplier 3: Digi-Key; Supplier Part Number 3: 296-27511-6-ND; Supplier 4: Newark; Supplier Part Number 4: 79R7878; Supplier 5: Mouser; Supplier Part Number 5: 595-BQ24093DGQT; Eco-Plan: Green (RoHS & no Sb/Br); Li-Ion: N; Li-Polymer: N; NiCd: N; NiMH: N; Over Voltage Protection: N; Mounting Technology: Surface Mount; Code_JEDEC: MO-187-BA-T; ComponentLink1Description: Datasheet; ComponentLink1URL: http://www.ti.com/general/docs/lit/getliterature.tsp?genericPartNumber=BQ24093&fileType=pdf
footprint DGQ10-1675X1445TP_N (TSSOP, 10-Leads, Body 3x3mm, Pitch 0.5mm, Thermal Pad 1.88x1.57mm, IPC Medium Density)
footprint DGQ10-1675X1445TP_L (TSSOP, 10-Leads, Body 3x3mm, Pitch 0.5mm, Thermal Pad 1.88x1.57mm, IPC High Density)
footprint DGQ10-1675X1445TP_M (TSSOP, 10-Leads, Body 3x3mm, Pitch 0.5mm, Thermal Pad 1.88x1.57mm, IPC Low Density)
pins: 1 IN (power) "Input power, connected to external DC supply (AC adapter or USB port). Expected range of bypass capacitors 1uF to 10uF, connect from IN to VSS.", 2 ISET (in) "Programs the Fast-charge current setting. External resistor from ISET to VSS defines fast charge current value. Range is 10.8k (50mA) to 675 ohm (800mA).", 3 VSS (power) "Ground terminal", 4 PRE-TERM (in) "Programs the Current Termination Threshold (5 to 50% of Iout which is set by ISET) and Sets the Pre- Charge Current to twice the Termination Current Level. Expected range of programming resistor is 1k to 10kohm (2k: Ipgm/10 (See Datasheet)", 5 ~{PG} (hiz) "Low (FET on) indicates the input voltage is above UVLO and the OUT (battery) voltage.", 6 NC "Do not make a connection to this pin (for internal use) - Do not route through this pin", 7 ISET2 "Programming the Input/Output Current Limit for the USB or Adaptor source: High = 500mAmax, Low = ISET, FLOAT = 100mA max.", 8 ~{CHG} (hiz) "Low (FET on) indicates charging and Open Drain (FET off) indicates no Charging or Charge complete.", 9 TS "Temperature sense pin connected to bq24090/2 -10k at 25degreesC NTC thermistor & bq24091/3 -100k at 25degreesC NTC thermistor, in the battery pack. Floating TS Pin or pulling High puts part in TTDM “Charger” Mode and disable (See Datasheet)", 10 OUT (power) "Battery Connection. System Load may be connected. Average load should not be excessive, allowing battery to charge within the 10 hour safety timer window. Expected range of bypass capacitors 1uF to 10uF.", 11 EP (power) "There is an internal electrical connection between the exposed thermal pad and the VSS pin of the device. The thermal pad must be connected to the same potential as the VSS pin on the printed circuit board. Do not use the (See Datasheet)"

## BQ24100RHL
designator U?
Standalone Synchronous Switch-mode Li-Ion Charger with 2 A FET in QFN-20, 1-Cell, 4.3 V, -40 to 85 degC, 20-pin QFN (RHL); PartNumber: BQ24100RHL; Manufacturer: Texas Instruments; Lead Acid: N; Li-Ion: Y; SubFamily: Battery Charge Management; Vin(Min)(V): 4.3; DatasheetVersion: SLUS606O; PackageVersion: revJ, Dec-2011; PackageReference: RHL20-3050X2050TP; PackageDescription: 20-Leads Plastic Quad Flatpack No-Lead, 4.5 x 3.5 x 0.9 mm Body, 0.5 mm Pitch, Exposed Pad; Supplier 1: Mouser; Supplier Part Number 1: N/A; Li-Polymer: Y; NiCd: N; NiMH: N; Over Voltage Protection: N; Mounting Technology: Surface Mount; ComponentLink1Description: Datasheet; ComponentLink1URL: http://www.ti.com/general/docs/lit/getliterature.tsp?genericPartNumber=BQ24100&fileType=pdf
footprint RHL20-3050X2050TP (QFN, 20-Leads, Body 4.5x3.5mm, Pitch 0.5mm, Thermal Pad 3.05x2.05mm, TI Recommended)
pins: 1 OUT (power) "Charge current output inductor connection. Connect a zener TVS diode between OUT pin and PGND pin to clamp the voltage spike to protect the power MOSFETs during abnormal conditions.", 2 STAT1 (oc) "Charge status 1 (open-drain output). When the transistor turns on indicates charge in process. When it is off and with the condition of STAT2 indicates various charger conditions (See Table 1)", 3 IN (power) "Charger input voltage.", 4 IN (power) "Charger input voltage.", 5 ~{PG} (oc) "Power-good status output (open drain). The transistor turns on when a valid VCC is detected. It is turned off in the sleep mode. P\G\ can be used to drive a LED or communicate with a host processor.", 6 VCC (power) "Analog device input. A 0.1 uF capacitor to VSS is required.", 7 TTC (in) "Timer and termination control. Connect a capacitor from this node to GND Timer and termination control. Connect a capacitor from this node to GND.", 8 ISET1 (in) "Charger current set point 1 (fast charge). Use a resistor to ground to set this value.", 9 ISET2 (in) "Charge current set point 2 (precharge and termination), set by a resistor connected to ground. A low-level CMODE signal selects the ISET2 charge rate, but if the battery voltage reaches the regulation set point, bqSWITCHER (See Datasheet)", 10 VSS (power) "Analog ground input", 11 VTSB "TS internal bias regulator voltage. Connect capacitor (with a value between a 0.1-uF and 1-uF) between this output and VSS.", 12 TS (in) "Temperature sense input. This input monitors its voltage against an internal threshold to determine if charging is allowed. Use an NTC thermistor and a voltage divider powered from VTSB to develop this voltage. (See Figure (See Datasheet)", 13 NC "No connection. This pin must be left floating in the application.", 14 BAT (in) "Battery voltage sense input. Bypass it with a 0.1 uF capacitor to PGND if there are long inductive leads to battery.", 15 SNS (in) "Charge current-sense input. Battery current is sensed via the voltage drop developed on this pin by an external sense resistor in series with the battery pack. A 0.1-uF capacitor to PGND is required.", 16 ~{CE} (in) "Charger enable input. This active low input, if set high, suspends charge and places the device in the low-power sleep mode. Do not pull up this input to VTSB.", 17 PGND (power) "Power ground input", 18 PGND (power) "Power ground input", 19 STAT2 (oc) "Charge status 2 (open-drain output). When the transistor turns on indicates charge is done. When it is off and with the condition of STAT1 indicates various charger conditions (See Table 1)", 20 OUT (power) "Charge current output inductor connection. Connect a zener TVS diode between OUT pin and PGND pin to clamp the voltage spike to protect the power MOSFETs during abnormal conditions.", 21 EP (power) "There is an internal electrical connection between the exposed thermal pad and VSS. The exposed thermal pad must be connected to the same potential as the VSS pin on the printed circuit board. The power pad can be used as a (See Datasheet)"

## BQ24100RHLR
designator U?
Standalone Synchronous Switch-mode Li-Ion Charger with 2 A FET in QFN-20, 1-Cell, 4.3 V, -40 to 85 degC, 20-pin QFN (RHL), Green (RoHS & no Sb/Br); PartNumber: BQ24100RHLR; Manufacturer: Texas Instruments; Lead Acid: N; Li-Ion: Y; SubFamily: Battery Charge Management; Vin(Min)(V): 4.3; DatasheetVersion: SLUS606O; PackageVersion: revJ, Dec-2011; PackageReference: RHL20-3050X2050TP; PackageDescription: 20-Leads Plastic Quad Flatpack No-Lead, 4.5 x 3.5 x 0.9 mm Body, 0.5 mm Pitch, Exposed Pad; Supplier 1: Digi-Key; Supplier Part Number 1: 296-17154-2-ND; Supplier 2: Digi-Key; Supplier Part Number 2: 296-17154-1-ND; Supplier 3: Digi-Key; Supplier Part Number 3: 296-17154-6-ND; Supplier 4: Farnell; Supplier Part Number 4: 9593942; Supplier 5: Newark; Supplier Part Number 5: 21J8735; Supplier 6: Mouser; Supplier Part Number 6: 595-BQ24100RHLR; Eco-Plan: Green (RoHS & no Sb/Br); Li-Polymer: Y; NiCd: N; NiMH: N; Over Voltage Protection: N; Mounting Technology: Surface Mount; ComponentLink1Description: Datasheet; ComponentLink1URL: http://www.ti.com/general/docs/lit/getliterature.tsp?genericPartNumber=BQ24100&fileType=pdf
footprint RHL20-3050X2050TP (QFN, 20-Leads, Body 4.5x3.5mm, Pitch 0.5mm, Thermal Pad 3.05x2.05mm, TI Recommended)
pins: 1 OUT (power) "Charge current output inductor connection. Connect a zener TVS diode between OUT pin and PGND pin to clamp the voltage spike to protect the power MOSFETs during abnormal conditions.", 2 STAT1 (oc) "Charge status 1 (open-drain output). When the transistor turns on indicates charge in process. When it is off and with the condition of STAT2 indicates various charger conditions (See Table 1)", 3 IN (power) "Charger input voltage.", 4 IN (power) "Charger input voltage.", 5 ~{PG} (oc) "Power-good status output (open drain). The transistor turns on when a valid VCC is detected. It is turned off in the sleep mode. P\G\ can be used to drive a LED or communicate with a host processor.", 6 VCC (power) "Analog device input. A 0.1 uF capacitor to VSS is required.", 7 TTC (in) "Timer and termination control. Connect a capacitor from this node to GND Timer and termination control. Connect a capacitor from this node to GND.", 8 ISET1 (in) "Charger current set point 1 (fast charge). Use a resistor to ground to set this value.", 9 ISET2 (in) "Charge current set point 2 (precharge and termination), set by a resistor connected to ground. A low-level CMODE signal selects the ISET2 charge rate, but if the battery voltage reaches the regulation set point, bqSWITCHER (See Datasheet)", 10 VSS (power) "Analog ground input", 11 VTSB "TS internal bias regulator voltage. Connect capacitor (with a value between a 0.1-uF and 1-uF) between this output and VSS.", 12 TS (in) "Temperature sense input. This input monitors its voltage against an internal threshold to determine if charging is allowed. Use an NTC thermistor and a voltage divider powered from VTSB to develop this voltage. (See Figure (See Datasheet)", 13 NC "No connection. This pin must be left floating in the application.", 14 BAT (in) "Battery voltage sense input. Bypass it with a 0.1 uF capacitor to PGND if there are long inductive leads to battery.", 15 SNS (in) "Charge current-sense input. Battery current is sensed via the voltage drop developed on this pin by an external sense resistor in series with the battery pack. A 0.1-uF capacitor to PGND is required.", 16 ~{CE} (in) "Charger enable input. This active low input, if set high, suspends charge and places the device in the low-power sleep mode. Do not pull up this input to VTSB.", 17 PGND (power) "Power ground input", 18 PGND (power) "Power ground input", 19 STAT2 (oc) "Charge status 2 (open-drain output). When the transistor turns on indicates charge is done. When it is off and with the condition of STAT1 indicates various charger conditions (See Table 1)", 20 OUT (power) "Charge current output inductor connection. Connect a zener TVS diode between OUT pin and PGND pin to clamp the voltage spike to protect the power MOSFETs during abnormal conditions.", 21 EP (power) "There is an internal electrical connection between the exposed thermal pad and VSS. The exposed thermal pad must be connected to the same potential as the VSS pin on the printed circuit board. The power pad can be used as a (See Datasheet)"